# Altium schematic symbol library teensy3.2.schlib: 1 symbol
Pins are listed as number, name and electrical type; pins without a type are passive.

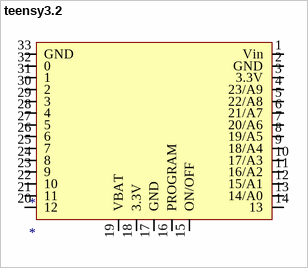
[diagram p0: symbol teensy3.2]

## teensy3.2
designator *
footprint teensy3.2
pins: 1 Vin, 2 GND, 3 3.3V, 4 23/A9, 5 22/A8, 6 21/A7, 7 20/A6, 8 19/A5, 9 18/A4, 10 17/A3, 11 16/A2, 12 15/A1, 13 14/A0, 14 13, 15 ON/OFF, 16 PROGRAM, 17 GND, 18 3.3V, 19 VBAT, 20 12, 21 11, 22 10, 23 9, 24 8, 25 7, 26 6, 27 5, 28 4, 29 3, 30 2, 31 1, 32 0, 33 GND